# Altium footprint library slip-ring.PcbLib: 3 footprints
Each footprint in its own frame and in the unit in brackets; x right, y up, seen from the top. Pads: shape width x height; smd on the part's side, far side on the other; paste and mask are expansions set on the pad; w line width, h text height; cw(c..) or ccw(c..) is an arc to the next point about the centre after c.
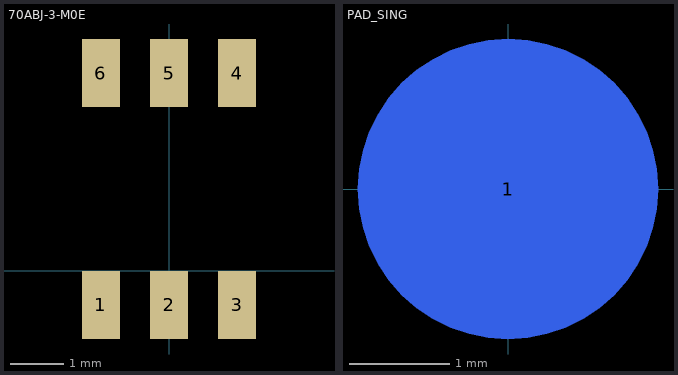
[diagram p0: the footprints below, top view; thin cyan lines are the x and y axes]

## 70ABJ-3-M0E [mm]
pads (6):
  rect 0.71x1.27 smd: 1(-1.27,-0.639) 2(0,-0.639) 3(1.27,-0.639) 4(1.27,3.679) 5(0,3.679) 6(-1.27,3.679)
3D body "asm.STEP": height 3.33, standoff 0, extent -2.214,-1.01 2.224,4.018

## 70ADJ-3-ML1G [mil]
3D body "70ADJ003ML1.stp": height 201.27, standoff -46, extent -228.99,-219.89 231.51,219.11

## PAD_SING [mm]
pads (1):
  round 3 smd far side: 1(0,0)